# Altium footprint library SM_SOT23_HIDENSITY_G_S_D.PcbLib: 1 footprints
Each footprint in its own frame and in the unit in brackets; x right, y up, seen from the top. Pads: shape width x height; smd on the part's side, far side on the other; paste and mask are expansions set on the pad; w line width, h text height; cw(c..) or ccw(c..) is an arc to the next point about the centre after c.
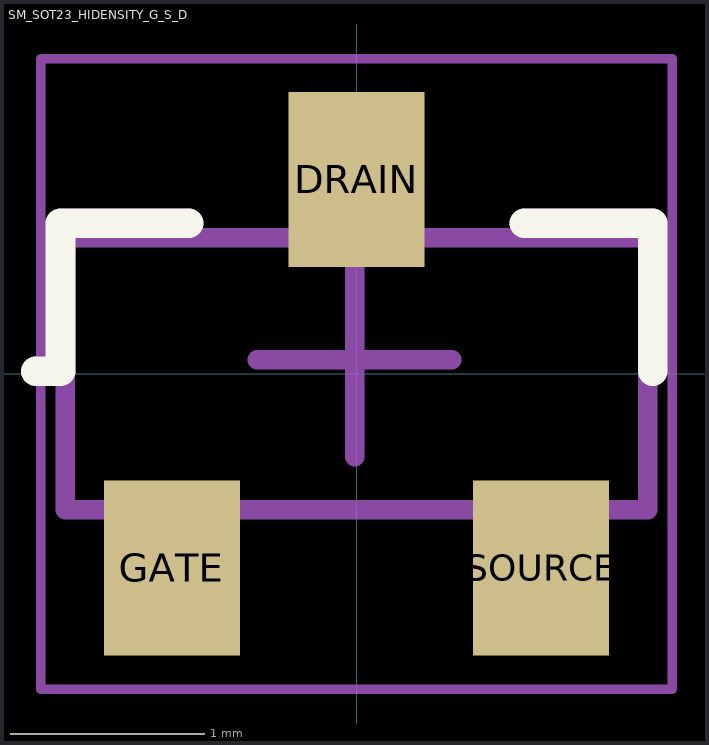
[diagram p0: the footprint, top view; thin cyan lines are the x and y axes]

## SM_SOT23_HIDENSITY_G_S_D [mm] "Smaller pads for high density placement"
pads (3):
  rect 0.7x0.9 smd: DRAIN(0,1) GATE(-0.95,-1) SOURCE(0.95,-1)
Top Overlay:
  lines w0.152: -1.651,0.013 -1.524,0.013 -1.524,0.775 -0.864,0.775 ; 0.864,0.775 1.524,0.775 1.524,0.013
Mechanical 1:
  lines w0.152: -1.651,0.013 -1.524,0.013 -1.524,0.775 -0.864,0.775 ; 0.864,0.775 1.524,0.775 1.524,0.013
Mechanical 13:
  lines w0.1: -1.5,-0.7 1.5,-0.7 1.5,0.7 -1.5,0.7 -1.5,-0.7
Mechanical 15:
  lines w0.05: -1.625,-1.625 1.625,-1.625 1.625,1.622 -1.625,1.622 -1.625,-1.625
  lines w0.1: -0.51,0.072 0.49,0.072 ; -0.01,-0.428 -0.01,0.572
3D body "CircuitWorks-SOT-23.step": height 1.1, standoff 0, extent -1.5,-1.25 1.5,1.25